# Altium footprint library TIDA-014851.PcbLib: 32 footprints (part 2 of 2)
Each footprint in its own frame and in the unit in brackets; x right, y up, seen from the top. Pads: shape width x height; smd on the part's side, far side on the other; paste and mask are expansions set on the pad; w line width, h text height; cw(c..) or ccw(c..) is an arc to the next point about the centre after c.
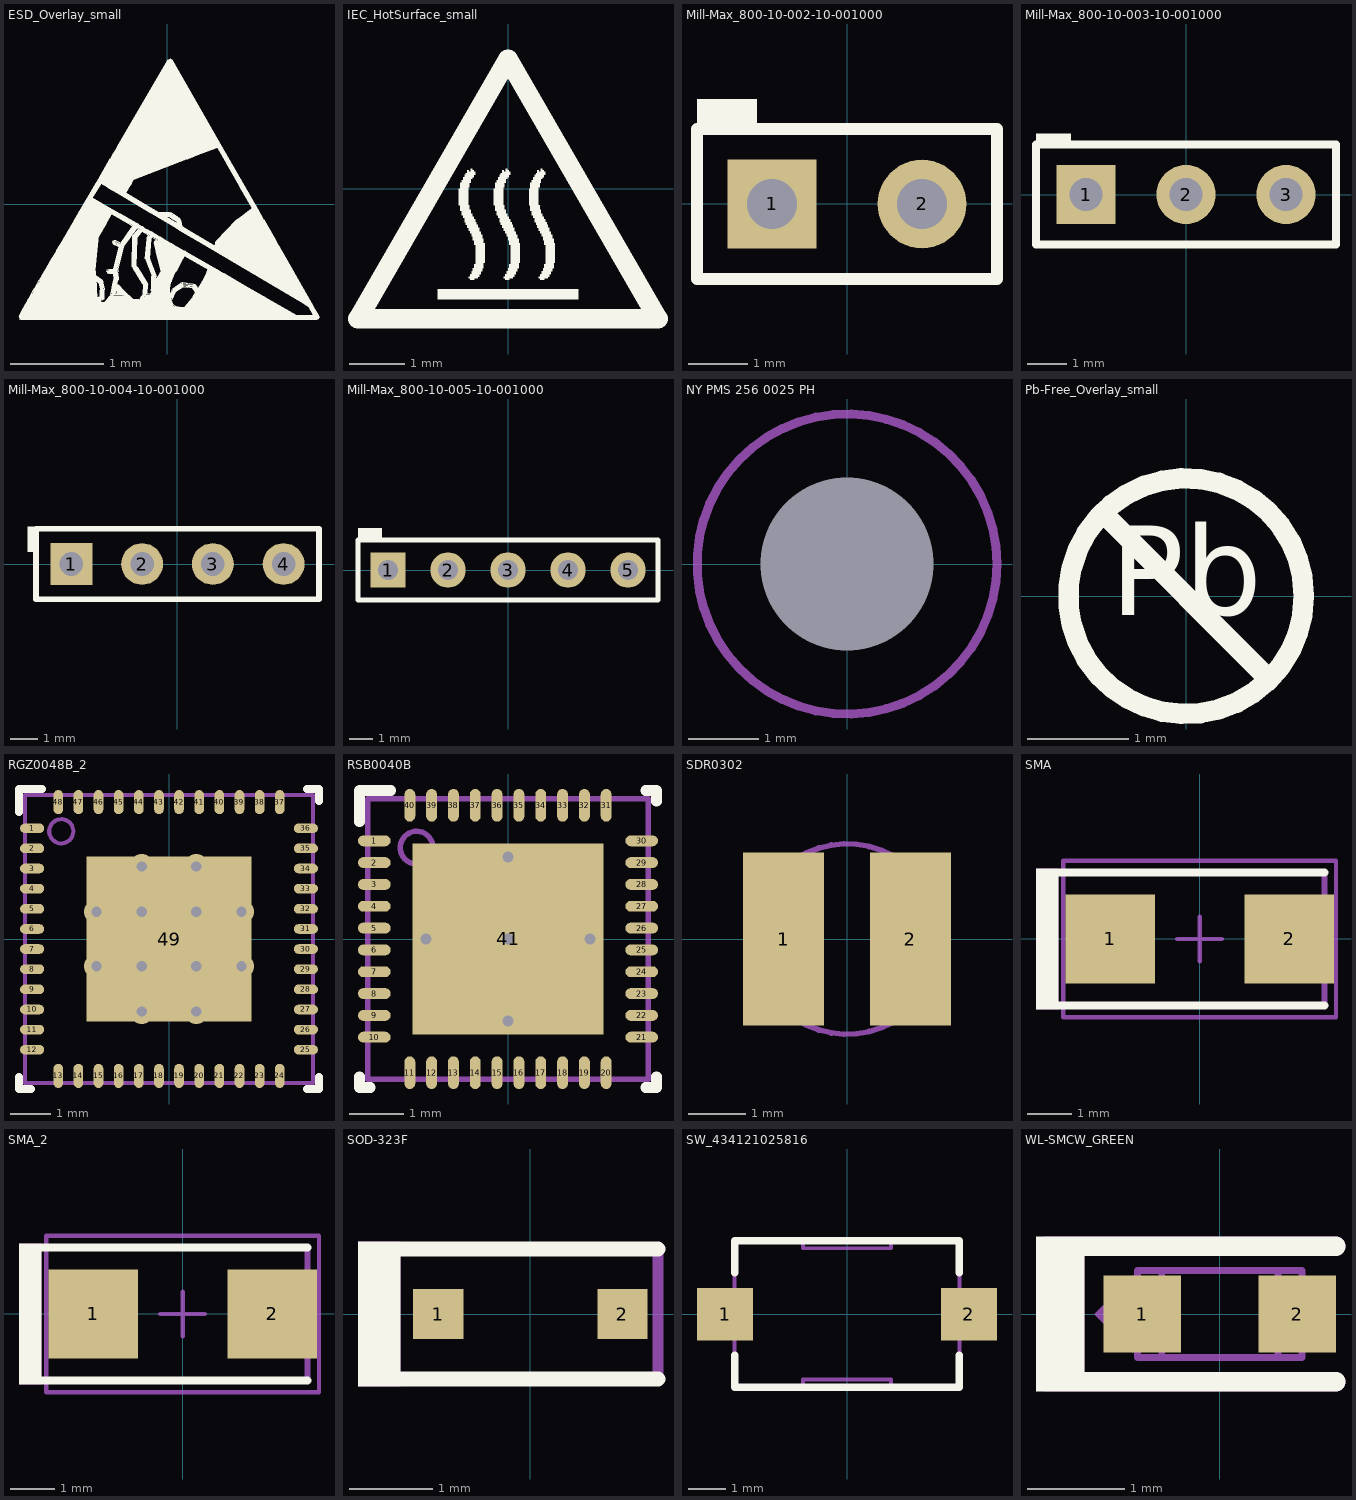
[diagram p1: the footprints below, top view; thin cyan lines are the x and y axes]

## ESD_Overlay_small [mm]
height 1.45
Top Overlay:
  drawing of 901 lines, arcs and shapes, not listed

## IEC_HotSurface_small [mm]
Top Overlay:
  drawing of 10 lines, arcs and shapes, not listed

## Mill-Max_800-10-002-10-001000 [mm] "Mill-Max"
height 8.128
pads (2):
  rect 1.5x1.5 hole 0.85: 1(-1.27,0)
  round 1.5 hole 0.85: 2(1.27,0)
Top Overlay:
  rectangle: -2.54,1.27 -1.524,1.778
  lines w0.203: -2.54,-1.27 2.54,-1.27 2.54,1.27 -2.54,1.27 -2.54,-1.27
Mechanical 5:
  lines w0.102: -2.54,-1.27 -2.54,1.27 2.54,1.27 2.54,-1.27 -2.54,-1.27
  text ".Designator" at 0.332,0.483 h0.64
3D body: height 3.17, standoff 0, extent -2.539,-1.269 2.539,1.269
3D body: height 8.13, standoff 0, extent 0.892,-0.38 1.651,0.38
3D body: height 8.13, standoff 0, extent -1.648,-0.38 -0.889,0.38
3D body: height 0.81, standoff -3, extent 0.968,-0.304 1.575,0.304
3D body: height 0.81, standoff -3, extent -1.572,-0.304 -0.965,0.304

## Mill-Max_800-10-003-10-001000 [mm] "Mill-Max"
height 8.128
pads (3):
  rect 1.5x1.5 hole 0.85: 1(-2.54,0)
  round 1.5 hole 0.85: 2(0,0) 3(2.54,0)
Top Overlay:
  rectangle: -3.81,1.27 -2.921,1.549
  lines w0.203: -3.81,-1.27 -3.81,1.27 3.81,1.27 3.81,-1.27 -3.81,-1.27
Mechanical 5:
  lines w0.102: -3.81,-1.27 3.81,-1.27 3.81,1.27 -3.81,1.27 -3.81,-1.27
  text ".Designator" at 0.889,-0.406 h0.64
3D body: height 3.17, standoff 0, extent -3.809,-1.269 3.809,1.269
3D body: height 0.81, standoff -3, extent -2.842,-0.304 -2.235,0.304
3D body: height 0.81, standoff -3, extent -0.302,-0.304 0.305,0.304
3D body: height 0.81, standoff -3, extent 2.238,-0.304 2.845,0.304
3D body: height 8.13, standoff 0, extent -2.918,-0.38 -2.159,0.38
3D body: height 8.13, standoff 0, extent -0.378,-0.38 0.381,0.38
3D body: height 8.13, standoff 0, extent 2.162,-0.38 2.921,0.38

## Mill-Max_800-10-004-10-001000 [mm] "Mill-Max"
height 8.128
pads (4):
  rect 1.5x1.5 hole 0.85: 1(-3.81,0)
  round 1.5 hole 0.85: 2(-1.27,0) 3(1.27,0) 4(3.81,0)
Top Overlay:
  region: -5.08,0.432 -5.08,1.346 -5.385,1.346 -5.385,0.432
  lines w0.203: -5.08,-1.27 5.08,-1.27 5.08,1.27 -5.08,1.27 -5.08,-1.27
Mechanical 5:
  lines w0.102: -5.08,-1.27 -5.08,1.27 5.08,1.27 5.08,-1.27 -5.08,-1.27
  text ".Designator" at 1.295,0.406 h0.64
3D body: height 3.17, standoff 0, extent -5.079,-1.269 5.079,1.269
3D body: height 8.13, standoff 0, extent 3.432,-0.38 4.191,0.38
3D body: height 8.13, standoff 0, extent 0.892,-0.38 1.651,0.38
3D body: height 8.13, standoff 0, extent -1.648,-0.38 -0.889,0.38
3D body: height 8.13, standoff 0, extent -4.188,-0.38 -3.429,0.38
3D body: height 0.81, standoff -3, extent 3.508,-0.304 4.115,0.304
3D body: height 0.81, standoff -3, extent 0.968,-0.304 1.575,0.304
3D body: height 0.81, standoff -3, extent -1.572,-0.304 -0.965,0.304
3D body: height 0.81, standoff -3, extent -4.112,-0.304 -3.505,0.304

## Mill-Max_800-10-005-10-001000 [mm] "Mill-Max"
height 8.128
pads (5):
  rect 1.5x1.5 hole 0.85: 1(-5.08,0)
  round 1.5 hole 0.85: 2(-2.54,0) 3(0,0) 4(2.54,0) 5(5.08,0)
Top Overlay:
  rectangle: -6.35,1.27 -5.334,1.778
  lines w0.203: -6.35,-1.27 6.35,-1.27 6.35,1.27 -6.35,1.27 -6.35,-1.27
Mechanical 5:
  lines w0.102: -6.35,-1.27 -6.35,1.27 6.35,1.27 6.35,-1.27 -6.35,-1.27
  text ".Designator" at -0.66,0.635 h0.64
3D body: height 8.13, standoff 0, extent 4.702,-0.38 5.461,0.38
3D body: height 8.13, standoff 0, extent 2.162,-0.38 2.921,0.38
3D body: height 8.13, standoff 0, extent -0.378,-0.38 0.381,0.38
3D body: height 8.13, standoff 0, extent -2.918,-0.38 -2.159,0.38
3D body: height 8.13, standoff 0, extent -5.458,-0.38 -4.699,0.38
3D body: height 0.81, standoff -3, extent 4.778,-0.304 5.385,0.304
3D body: height 0.81, standoff -3, extent 2.238,-0.304 2.845,0.304
3D body: height 0.81, standoff -3, extent -0.302,-0.304 0.305,0.304
3D body: height 0.81, standoff -3, extent -2.842,-0.304 -2.235,0.304
3D body: height 0.81, standoff -3, extent -5.382,-0.304 -4.775,0.304
3D body: height 3.17, standoff 0, extent -6.349,-1.269 6.349,1.269

## NY PMS 256 0025 PH [mm] "Machine Screw Pan Phillips 2-56"
height 1.45
pads (1):
  round 2 hole 2.45 unplated mask+0.381: ""(0,0)
Mechanical 5:
  circle w0.127: c0,0 r2.121
  text ".Designator" at 0.533,0.381 h0.64
3D body "NY PMS 256 0025 PH.stp": height 1.45, standoff -6.35, extent -2.121,-2.12 2.121,2.12

## Pb-Free_Overlay_small [mm]
height 1.45
Top Overlay:
  circle w0.203: c0,0 r1.168
  lines w0.203: -0.826,0.826 0.826,-0.826
  text "Pb" at -0.752,-0.48 h1.52

## RGZ0048B_2 [mm] "QFN, 48-Leads, Body 7x7mm, Pitch 0.5mm, Thermal Pad 5.15x5.15mm, TI Recommended"
height 1
pads (49):
  oval 0.6x0.24 smd: 1(-3.4,2.75) 2(-3.4,2.25) 3(-3.4,1.75) 4(-3.4,1.25) 5(-3.4,0.75) 6(-3.4,0.25) 7(-3.4,-0.25) 8(-3.4,-0.75) 9(-3.4,-1.25) 10(-3.4,-1.75) 11(-3.4,-2.25) 12(-3.4,-2.75) 25(3.4,-2.75) 26(3.4,-2.25) 27(3.4,-1.75) 28(3.4,-1.25) 29(3.4,-0.75) 30(3.4,-0.25) 31(3.4,0.25) 32(3.4,0.75) 33(3.4,1.25) 34(3.4,1.75) 35(3.4,2.25) 36(3.4,2.75)
  oval 0.24x0.6 smd: 13(-2.75,-3.4) 14(-2.25,-3.4) 15(-1.75,-3.4) 16(-1.25,-3.4) 17(-0.75,-3.4) 18(-0.25,-3.4) 19(0.25,-3.4) 20(0.75,-3.4) 21(1.25,-3.4) 22(1.75,-3.4) 23(2.25,-3.4) 24(2.75,-3.4) 37(2.75,3.4) 38(2.25,3.4) 39(1.75,3.4) 40(1.25,3.4) 41(0.75,3.4) 42(0.25,3.4) 43(-0.25,3.4) 44(-0.75,3.4) 45(-1.25,3.4) 46(-1.75,3.4) 47(-2.25,3.4) 48(-2.75,3.4)
  rect 4.1x4.1 smd paste-2.575: 49(0,0)
via 0.679,0.679 diameter 0.61 hole 0.254
via 1.8,0.679 diameter 0.61 hole 0.254
via 0.679,1.8 diameter 0.61 hole 0.254
via 0.679,-1.8 diameter 0.61 hole 0.254
via 1.8,-0.679 diameter 0.61 hole 0.254
via 0.679,-0.679 diameter 0.61 hole 0.254
via -0.679,-1.8 diameter 0.61 hole 0.254
via -1.8,-0.679 diameter 0.61 hole 0.254
via -0.679,-0.679 diameter 0.61 hole 0.254
via -0.679,1.8 diameter 0.61 hole 0.254
via -1.8,0.679 diameter 0.61 hole 0.254
via -0.679,0.679 diameter 0.61 hole 0.254
Top Overlay:
  lines w0.2: -3.725,-3.425 -3.725,-3.725 -3.425,-3.725 ; -3.725,3.15 -3.725,3.725 -3.15,3.725 ; 3.425,-3.725 3.725,-3.725 3.725,-3.425 ; 3.425,3.725 3.725,3.725 3.725,3.425
Top Paste:
  rectangle: -0.579,-0.579 0.579,0.579
  rectangle: 0.778,-0.579 1.936,0.579
  region: -0.778,0.579 -1.936,0.579 -1.936,-0.579 -0.778,-0.579
  region: -0.778,1.936 -1.936,1.936 -1.936,0.778 -0.778,0.778
  rectangle: 0.778,0.778 1.936,1.936
  rectangle: -0.579,0.778 0.579,1.936
  rectangle: -0.579,-1.936 0.579,-0.778
  rectangle: 0.778,-1.936 1.936,-0.778
  region: -0.778,-0.778 -1.936,-0.778 -1.936,-1.936 -0.778,-1.936
Mechanical 5:
  circle w0.1: c-2.675,2.675 r0.3
  lines w0.1: -3.575,-3.575 3.575,-3.575 3.575,3.575 -3.575,3.575 -3.575,-3.575
3D body: height 1.01, standoff 0.5, extent -2.974,2.376 -2.376,2.974
3D body: height 1, standoff 0, extent -3.575,-3.575 3.575,3.575

## RSB0040B [mm] "QFN, 40-Leads, Body 5x5mm, Pitch 0.4mm, Thermal Pad 3.5x3.5mm, TI Recommended"
height 0.8
pads (41):
  oval 0.6x0.2 smd: 1(-2.45,1.8) 2(-2.45,1.4) 3(-2.45,1) 4(-2.45,0.6) 5(-2.45,0.2) 6(-2.45,-0.2) 7(-2.45,-0.6) 8(-2.45,-1) 9(-2.45,-1.4) 10(-2.45,-1.8) 21(2.45,-1.8) 22(2.45,-1.4) 23(2.45,-1) 24(2.45,-0.6) 25(2.45,-0.2) 26(2.45,0.2) 27(2.45,0.6) 28(2.45,1) 29(2.45,1.4) 30(2.45,1.8)
  oval 0.2x0.6 smd: 11(-1.8,-2.45) 12(-1.4,-2.45) 13(-1,-2.45) 14(-0.6,-2.45) 15(-0.2,-2.45) 16(0.2,-2.45) 17(0.6,-2.45) 18(1,-2.45) 19(1.4,-2.45) 20(1.8,-2.45) 31(1.8,2.45) 32(1.4,2.45) 33(1,2.45) 34(0.6,2.45) 35(0.2,2.45) 36(-0.2,2.45) 37(-0.6,2.45) 38(-1,2.45) 39(-1.4,2.45) 40(-1.8,2.45)
  rect 3.5x3.5 smd paste-1.75: 41(0,0)
via 1.5,0 diameter 0.5 hole 0.2
via 0,-1.5 diameter 0.5 hole 0.2
via 0,0 diameter 0.5 hole 0.2
via -1.5,0 diameter 0.5 hole 0.2
via 0,1.5 diameter 0.5 hole 0.2
Top Overlay:
  lines w0.2: -2.725,-2.525 -2.725,-2.725 -2.525,-2.725 ; -2.725,2.15 -2.725,2.725 -2.15,2.725 ; 2.525,-2.725 2.725,-2.725 2.725,-2.525 ; 2.525,2.725 2.725,2.725 2.725,2.525
Top Paste:
  rectangle: 0.1,-1.607 1.607,-0.1
  region: -0.1,-0.1 -1.607,-0.1 -1.607,-1.607 -0.1,-1.607
  region: -0.1,1.607 -1.607,1.607 -1.607,0.1 -0.1,0.1
  rectangle: 0.1,0.1 1.607,1.607
Mechanical 5:
  circle w0.1: c-1.675,1.675 r0.3
  lines w0.1: -2.575,-2.575 2.575,-2.575 2.575,2.575 -2.575,2.575 -2.575,-2.575
  text ".Designator" at 0.127,-0.66 h0.64
3D body: height 0.8, standoff 0, extent -2.575,-2.575 2.575,2.575
3D body: height 0.81, standoff 0.5, extent -1.974,1.376 -1.376,1.974

## SDR0302 [mm] "BOURNS"
height 2.8
pads (2):
  rect 1.4x3 smd: 1(-1.1,0) 2(1.1,0)
Mechanical 5:
  circle w0.1: c0,0 r1.65
  text ".Designator" at 0.533,0.508 h0.64
3D body: height 2.8, standoff 2.4, extent -1.649,-1.649 1.649,1.649
3D body: height 2.4, standoff 0.8, extent -1.449,-1.449 1.449,1.449
3D body: height 0.8, standoff 0, extent -1.649,-1.649 1.649,1.649

## SMA [mm] "Molded Diode, 2-Leads, Body 4.3x2.6mm, IPC Medium Density, based on OnSemi component dimensions and land pattern"
height 2.27
pads (2):
  rect 2x2 smd: 1(-2,0) 2(2,0)
Top Overlay:
  rectangle: -3.658,-1.575 -3.15,1.575
  lines w0.178: -3.327,-1.486 2.794,-1.486 ; -3.327,1.486 2.794,1.486
Mechanical 5:
  rectangle: -3.658,-1.575 -3.15,1.575
  lines w0.127: -3.327,-1.486 2.794,-1.486 2.794,1.486 -3.327,1.486
  text ".Designator" at 0.432,-0.432 h0.64
Mechanical 15:
  lines w0.1: -0.5,0 0.5,0 ; 0,-0.5 0,0.5 ; -3.05,-1.75 -3.05,1.75 3.05,1.75 3.05,-1.75 -3.05,-1.75
3D body "SMA_nominal.stp": height 2.42, standoff 0.02, extent -2.6,-1.3 2.6,1.3

## SMA_2 [mm]
pads (2):
  rect 2x2 smd: 1(-2,0) 2(2,0)
Top Overlay:
  rectangle: -3.658,-1.575 -3.15,1.575
  lines w0.178: -3.327,-1.486 2.794,-1.486 ; -3.327,1.486 2.794,1.486
Mechanical 5:
  rectangle: -3.658,-1.575 -3.15,1.575
  lines w0.127: -3.327,-1.486 2.794,-1.486 2.794,1.486 -3.327,1.486
  text ".Designator" at 0.203,0.229 h0.64
Mechanical 15:
  lines w0.1: -0.5,0 0.5,0 ; 0,-0.5 0,0.5 ; -3.05,-1.75 3.05,-1.75 3.05,1.75 -3.05,1.75 -3.05,-1.75
3D body "SMA_nominal.stp": height 2.42, standoff 0.02, extent -2.6,-1.3 2.6,1.3

## SOD-323F [mm] "NXP recommended land pattern"
height 0.8
pads (2):
  rect 0.6x0.6 smd paste-0.05: 1(-1.1,0) 2(1.1,0)
Top Overlay:
  rectangle: -2.057,-0.864 -1.549,0.864
  lines w0.178: -1.803,-0.775 0.1,-0.775 1.525,-0.775 ; -1.803,0.775 0.1,0.775 1.525,0.775
Mechanical 5:
  rectangle: -2.057,-0.864 -1.549,0.864
  lines w0.127: -1.803,-0.775 0.1,-0.775 1.525,-0.775 1.525,0.775 0.1,0.775 -1.803,0.775
  text ".Designator" at -0.508,-0.254 h0.64
3D body "SOD-323F.stp": height 0.79, standoff -0.08, extent -1.35,-0.675 1.35,0.675

## SW_434121025816 [mm] "SMD, 2-Leads, Body 6x3.9mm, Pitch 6.5mm"
height 2.65
pads (2):
  rect 1.5x1.4 smd: 1(-3.25,0) 2(3.25,0)
Top Overlay:
  lines w0.2: -3,-1.1 -3,-1.95 3,-1.95 3,-1.1 ; -3,1.1 -3,1.95 3,1.95 3,1.1
Mechanical 5:
  lines w0.1: -3,-0.5 -3.65,-0.5 -3.65,0.5 -3,0.5 ; -1.175,-1.95 -1.175,-1.75 1.175,-1.75 1.175,-1.95 ; -1.175,1.95 -1.175,1.75 1.175,1.75 1.175,1.95 ; 3,-0.5 3.65,-0.5 3.65,0.5 3,0.5 ; -3,-1.95 3,-1.95 3,1.95 -3,1.95 -3,-1.95
  text ".Designator" at 0.686,0.457 h0.64
3D body "434121025816.stp": height 2.5, standoff 0, extent -3.65,-1.95 3.65,1.95

## WL-SMCW_GREEN [mm] "WURTH"
height 0.8
pads (2):
  rect 0.8x0.8 smd: 1(-0.8,0) 2(0.8,0)
Top Overlay:
  rectangle: -1.9,-0.8 -1.4,0.8
  lines w0.2: -1.6,-0.7 1.2,-0.7 ; -1.6,0.7 1.2,0.7
Mechanical 5:
  region: -0.9,-0.4 -0.9,0.4 -1.3,0
  lines w0.2: -1.65,-0.7 -1.65,0.55 ; 1.2,-0.7 -1.5,-0.7 ; 1.2,0.7 -1.5,0.7 ; -1.5,-0.7 -1.8,-0.7 -1.8,0.7 -1.5,0.7 ; -1.5,-0.7 -1.5,0.7
  text ".Designator" at -0.508,-0.291 h0.64
Mechanical 13:
  lines w0.07: -0.6,-0.45 -0.6,0.45 ; 0.6,-0.45 0.6,0.45 ; -0.85,-0.45 0.85,-0.45 0.85,0.45 -0.85,0.45 -0.85,-0.45
3D body: height 0.8, standoff 0.35, extent -0.599,-0.449 0.599,0.449
3D body: height 0.35, standoff 0, extent 0.601,-0.449 0.849,0.449
3D body: height 0.35, standoff 0, extent -0.599,-0.449 0.599,0.449
3D body: height 0.35, standoff 0, extent -0.849,-0.449 -0.601,0.449